# Altium footprint library Connectors.PcbLib: 18 footprints (part 2 of 2)
Each footprint in its own frame and in the unit in brackets; x right, y up, seen from the top. Pads: shape width x height; smd on the part's side, far side on the other; paste and mask are expansions set on the pad; w line width, h text height; cw(c..) or ccw(c..) is an arc to the next point about the centre after c.
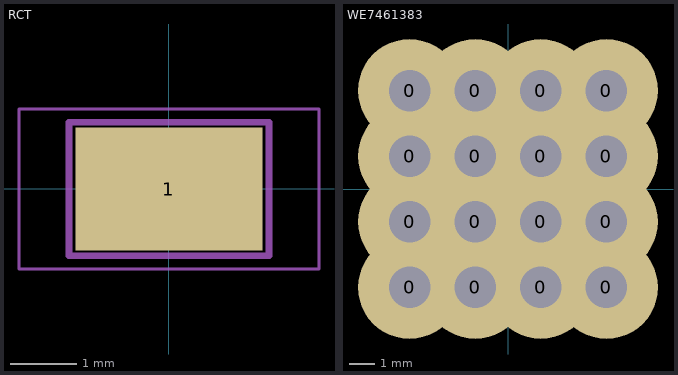
[diagram p1: the footprints below, top view; thin cyan lines are the x and y axes]

## RCT [mm]
height 0.6
pads (1):
  rect 2.8x1.84 smd: 1(0,0)
Mechanical 13:
  lines w0.1: -1.5,-1 1.5,-1 1.5,1 -1.5,1 -1.5,-1
Mechanical 15:
  lines w0.05: -2.25,-1.2 2.25,-1.2 2.25,1.2 -2.25,1.2 -2.25,-1.2
  lines w0.1: -0.5,0 0.5,0 ; 0,-0.5 0,0.5
3D body: height 0.6, standoff 0, extent -1,-0.625 1,0.625

## WE7461383 [mm]
pads (16):
  round 4 hole 1.6: 0(-3.81,-3.81) 0(-3.81,-1.27) 0(-3.81,1.27) 0(-3.81,3.81) 0(-1.27,-3.81) 0(-1.27,-1.27) 0(-1.27,1.27) 0(-1.27,3.81) 0(1.27,-3.81) 0(1.27,-1.27) 0(1.27,1.27) 0(1.27,3.81) 0(3.81,-3.81) 0(3.81,-1.27) 0(3.81,1.27) 0(3.81,3.81)
3D body "WE 7461383.STEP": height 12.5, standoff -3.5, extent -4.5,-4.5 4.5,4.5